# EAGLE library part GRENZSCHALTER_SSSS (library pkess_schalter)
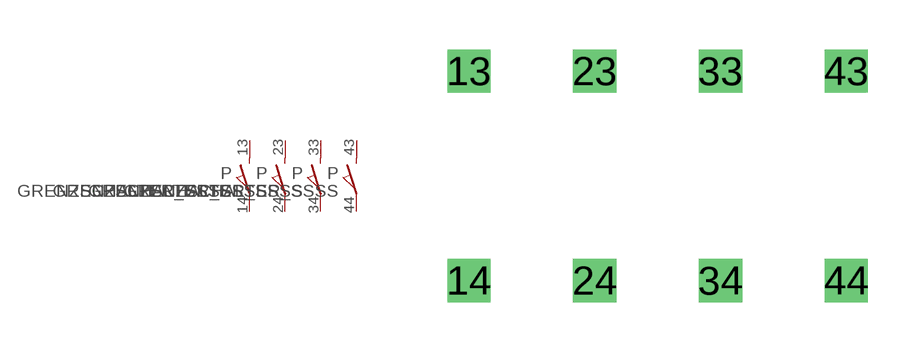
[diagram p0: symbol with the pads of KONTAKTE_SSSS; footprint KONTAKTE_SSSS]

Designator prefix P; gates G$1=GRENZSCHALTER_S G$2=GRENZSCHALTER_S G$3=GRENZSCHALTER_S G$4=GRENZSCHALTER_S

## GRENZSCHALTER_SSSS  [KONTAKTE_SSSS]
13  G$1:3  pas
14  G$1:4  pas
23  G$2:3  pas
24  G$2:4  pas
33  G$3:3  pas
34  G$3:4  pas
43  G$4:3  pas
44  G$4:4  pas

## Footprint KONTAKTE_SSSS (pad centres in mm)
drill 0.8 square: 13 0,0; 14 0,-6.35; 23 3.81,0; 24 3.81,-6.35; 33 7.62,0; 34 7.62,-6.35; 43 11.43,0; 44 11.43,-6.35